# Altium footprint library SOP.PcbLib: 39 footprints (part 1 of 3)
Each footprint in its own frame and in the unit in brackets; x right, y up, seen from the top. Pads: shape width x height; smd on the part's side, far side on the other; paste and mask are expansions set on the pad; w line width, h text height; cw(c..) or ccw(c..) is an arc to the next point about the centre after c.
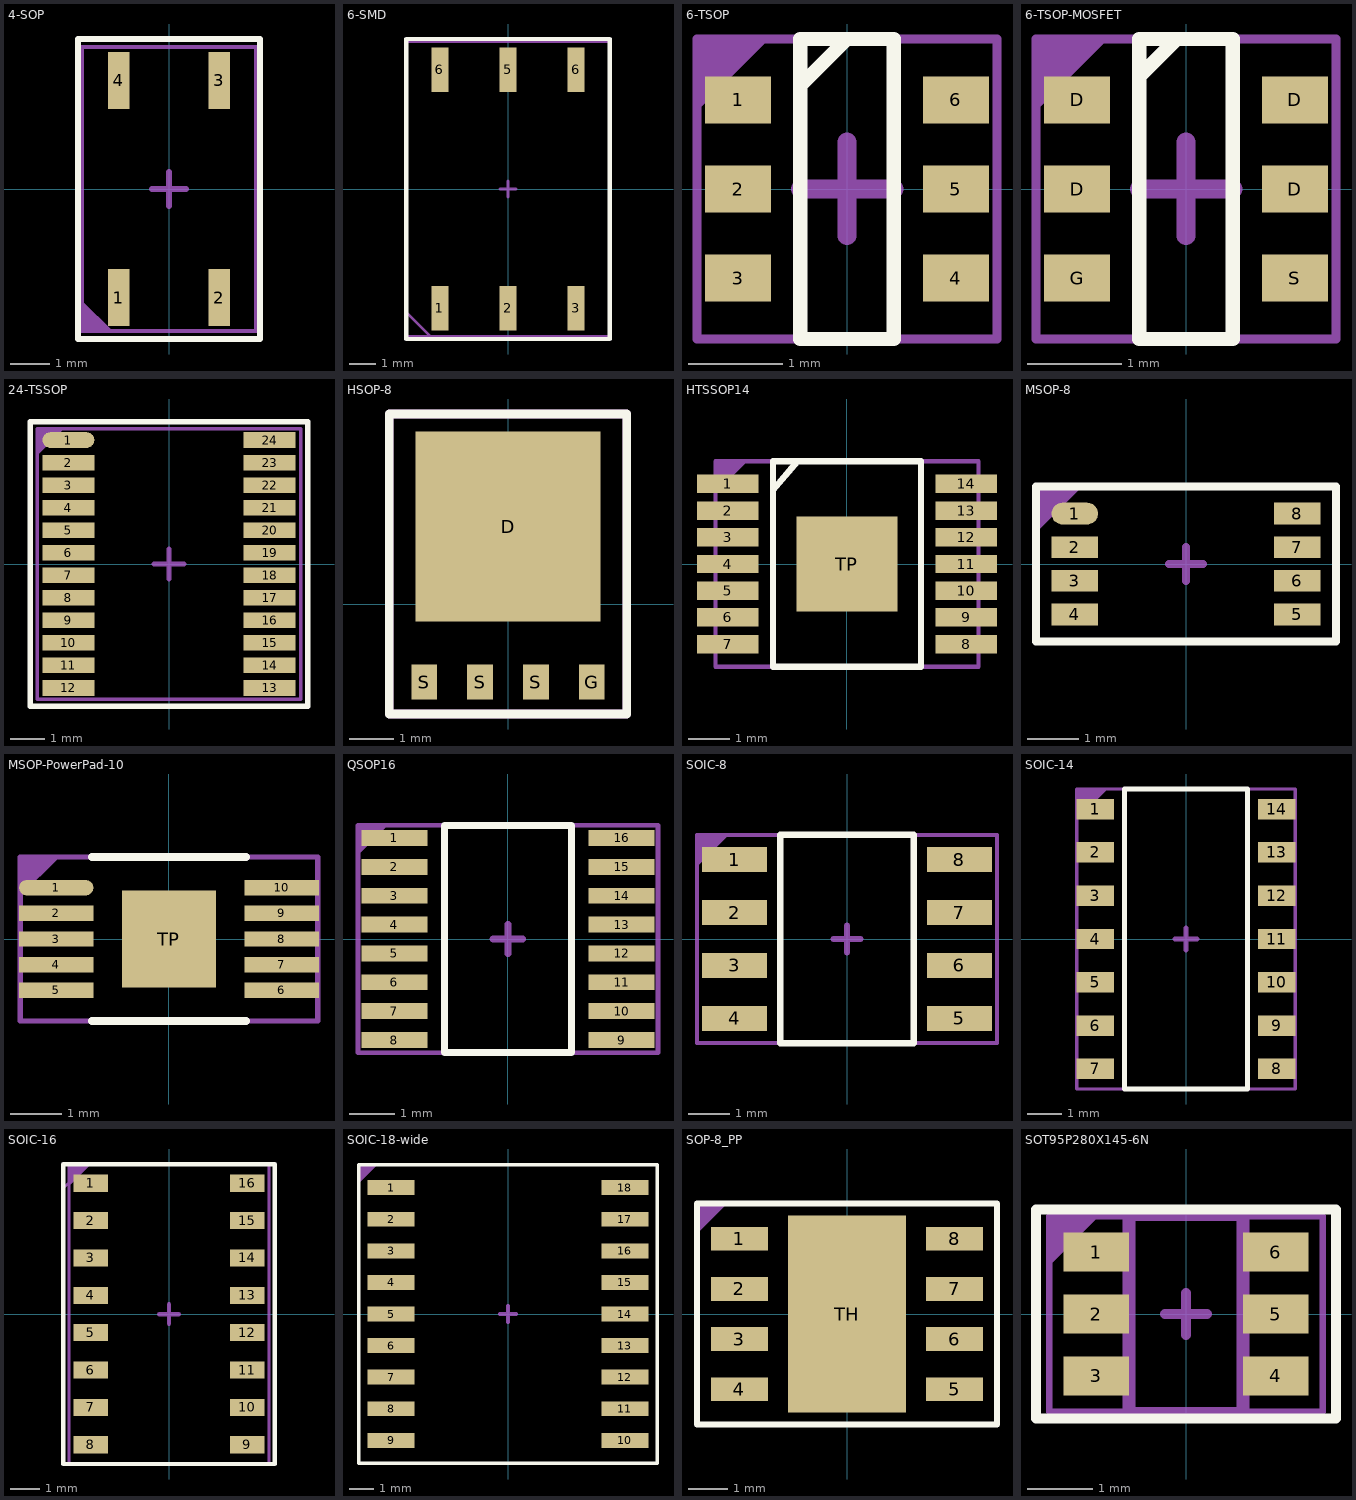
[diagram p0: the footprints below, top view; thin cyan lines are the x and y axes]

## 4-SOP [mm]
pads (4):
  rect 0.55x1.45 smd: 1(-1.27,-2.75) 2(1.27,-2.75) 3(1.27,2.75) 4(-1.27,2.75)
Top Overlay:
  lines w0.153: -2.3,-3.8 2.3,-3.8 2.3,3.8 -2.3,3.8 -2.3,-3.8
  text "." at -2.147,-4.347 h0.8
Top Assembly:
  region: -2.2,-3.6 -2.2,-2.9 -1.5,-3.6
  lines w0.1: -2.2,-2.9 -1.5,-3.6 ; -2.2,-3.6 -2.2,3.6 2.2,3.6 2.2,-3.6 -2.2,-3.6
  text "'.Designator'" at -2.147,4.22 h0.8
Mechanical 15:
  lines w0.1: -2.2,-2.9 -1.5,-3.6 ; -2.2,-3.6 -2.2,3.6 2.2,3.6 2.2,-3.6 -2.2,-3.6
  lines w0.153: -0.425,0 0.425,0 ; 0,-0.425 0,0.425
3D body "User Library-4-SOP.STEP": height 2.1, standoff 0, extent -2.17,-3.4 2.13,3.4

## 6-SMD [mm]
pads (6):
  rect 0.65x1.65 smd: 1(-2.54,-4.45) 2(0,-4.45) 3(2.54,-4.45) 5(0,4.45) 6(-2.54,4.45) 6(2.54,4.45)
Top Overlay:
  lines w0.153: -3.8,-5.6 3.8,-5.6 3.8,5.6 -3.8,5.6 -3.8,-5.6
  text "." at -3.487,-6.297 h0.8
Top Assembly:
  lines w0.1: -3.8,-4.6 -2.9,-5.5 ; -3.8,-5.5 3.8,-5.5 3.8,5.5 -3.8,5.5 -3.8,-5.5
  text "CHECK" at -1.547,7.853 h0.8
  text "'.Designator'" at -4.312,6.57 h0.8
Mechanical 15:
  lines w0.1: -3.8,-4.6 -2.9,-5.5 ; -0.3,0 0.3,0 ; 0,-0.3 0,0.3 ; -3.8,-5.5 3.8,-5.5 3.8,5.5 -3.8,5.5 -3.8,-5.5
3D body "User Library-6-SMD.STEP": height 3.61, standoff 0, extent -3.607,-5.085 3.683,5.075

## 6-TSOP [mm]
height 1.1
pads (6):
  rect 0.7x0.5 smd: 1(-1.162,0.95) 2(-1.162,0) 3(-1.162,-0.95) 4(1.162,-0.95) 5(1.162,0) 6(1.162,0.95)
Top Overlay:
  lines w0.15: -0.5,1.1 0,1.6
  lines w0.153: -0.5,-1.6 -0.5,1.6 0.5,1.6 0.5,-1.6 -0.5,-1.6
Top Assembly:
  region: -1.6,1.6 -0.9,1.6 -1.6,0.9
  lines w0.1: -1.6,0.9 -0.9,1.6 ; -1.6,-1.6 1.6,-1.6 1.6,1.6 -1.6,1.6 -1.6,-1.6
  text "'.Designator'" at -2.522,2.345 h0.8
Mechanical 15:
  lines w0.1: -1.6,0.9 -0.9,1.6 ; -1.6,-1.6 1.6,-1.6 1.6,1.6 -1.6,1.6 -1.6,-1.6
  lines w0.2: -0.5,0 0.5,0 ; 0,-0.5 0,0.5
3D body "6-TSOP.step": height 1.1, standoff 0, extent -1.412,-1.55 1.413,1.55

## 6-TSOP-MOSFET [mm]
height 1.1
pads (6):
  rect 0.7x0.5 smd: D(-1.162,0) D(-1.162,0.95) D(1.162,0) D(1.162,0.95) G(-1.162,-0.95) S(1.162,-0.95)
Top Overlay:
  lines w0.153: -0.5,1.2 -0.1,1.6 ; -0.5,-1.6 -0.5,1.6 0.5,1.6 0.5,-1.6 -0.5,-1.6
Top Assembly:
  region: -1.6,1.6 -0.9,1.6 -1.6,0.9
  lines w0.1: -1.6,0.9 -0.9,1.6 ; -1.6,-1.6 -1.6,1.6 1.6,1.6 1.6,-1.6 -1.6,-1.6
  text "'.Designator'" at -2.522,2.345 h0.8
Mechanical 15:
  lines w0.1: -1.6,0.9 -0.9,1.6 ; -1.6,-1.6 -1.6,1.6 1.6,1.6 1.6,-1.6 -1.6,-1.6
  lines w0.2: -0.5,0 0.5,0 ; 0,-0.5 0,0.5
3D body "6-TSOP.step": height 1.1, standoff 0, extent -1.412,-1.55 1.413,1.55

## 24-TSSOP [mm]
pads (24):
  oval 1.5x0.45 smd mask+0.025: 1(-2.9,3.575)
  rect 1.5x0.45 smd mask+0.025: 2(-2.9,2.925) 3(-2.9,2.275) 4(-2.9,1.625) 5(-2.9,0.975) 6(-2.9,0.325) 7(-2.9,-0.325) 8(-2.9,-0.975) 9(-2.9,-1.625) 10(-2.9,-2.275) 11(-2.9,-2.925) 12(-2.9,-3.575) 13(2.9,-3.575) 14(2.9,-2.925) 15(2.9,-2.275) 16(2.9,-1.625) 17(2.9,-0.975) 18(2.9,-0.325) 19(2.9,0.325) 20(2.9,0.975) 21(2.9,1.625) 22(2.9,2.275) 23(2.9,2.925) 24(2.9,3.575)
Top Overlay:
  lines w0.153: -4,-4.1 -4,4.1 4,4.1 4,-4.1 -4,-4.1
  text "." at -4.547,3.953 h0.8
Top Assembly:
  region: -3.8,3.9 -3.1,3.9 -3.8,3.2
  lines w0.1: -3.8,3.2 -3.1,3.9 ; -3.8,-3.9 3.8,-3.9 3.8,3.9 -3.8,3.9 -3.8,-3.9
  text "'.Designator'" at -0.68,3.747 h0.8
Mechanical 15:
  lines w0.1: -3.8,3.2 -3.1,3.9 ; -3.8,-3.9 -3.8,3.9 3.8,3.9 3.8,-3.9 -3.8,-3.9
  lines w0.153: -0.425,0 0.425,0 ; 0,-0.425 0,0.425
3D body "User Library-TSSOP24_(JEDEC_MO-153).STEP": height 1.2, standoff 0, extent -3.278,-3.975 3.278,3.925

## HSOP-8 [mm]
pads (5):
  rect 4.21x4.32 smd: D(0,1.77)
  rect 0.59x0.8 smd: G(1.905,-1.77) S(-1.905,-1.77) S(-0.635,-1.77) S(0.635,-1.77)
Top Overlay:
  lines w0.2: -2.7,-2.495 2.7,-2.495 2.7,4.33 -2.7,4.33 -2.7,-2.495
  text "." at -2.446,-3.316 h1.52
Top Assembly:
  lines w0.2: -2.7,-2.495 -2.7,4.33 2.7,4.33 2.7,-2.495 -2.7,-2.495
  text "BAD" at -1.047,6.553 h0.8
  text "'.Designator'" at -4.399,5.129 h0.8
Mechanical 15:
  lines w0.1: -2.7,-2.495 2.7,-2.495 2.7,4.33 -2.7,4.33 -2.7,-2.495
  lines w0.2: -0.6,1.13 0.4,1.13 ; -0.109,0.617 -0.109,1.617

## HTSSOP14 [mm]
pads (15):
  rect 1.5x0.45 smd mask+0.02: 1(-2.9,1.95) 2(-2.9,1.3) 3(-2.9,0.65) 4(-2.9,0) 5(-2.9,-0.65) 6(-2.9,-1.3) 7(-2.9,-1.95) 8(2.9,-1.95) 9(2.9,-1.3) 10(2.9,-0.65) 11(2.9,0) 12(2.9,0.65) 13(2.9,1.3) 14(2.9,1.95)
  rect 2.46x2.31 smd: TP(0,0)
Top Overlay:
  lines w0.153: -1.8,1.8 -1.2,2.5 ; -1.8,-2.5 -1.8,2.5 1.8,2.5 1.8,-2.5 -1.8,-2.5
Top Assembly:
  region: -3.2,2.5 -2.5,2.5 -3.2,1.8
  lines w0.1: -3.2,1.8 -2.5,2.5 ; -3.2,-2.5 3.2,-2.5 3.2,2.5 -3.2,2.5 -3.2,-2.5
  text "'.Designator'" at -4.347,-0.28 h0.8
Mechanical 15:
  lines w0.1: -0.3,0 0.3,0 ; 0,-0.3 0,0.3 ; -3.2,-2.5 -3.2,2.5 3.2,2.5 3.2,-2.5 -3.2,-2.5
3D body "HTSSOP14.step": height 1.1, standoff 0, extent -3.192,-2.491 3.191,2.491

## MSOP-8 [mm]
pads (8):
  oval 0.9x0.42 smd: 1(-2.15,0.975)
  rect 0.9x0.42 smd: 2(-2.15,0.325) 3(-2.15,-0.325) 4(-2.15,-0.975) 5(2.15,-0.975) 6(2.15,-0.325) 7(2.15,0.325) 8(2.15,0.975)
Top Overlay:
  lines w0.153: -2.9,-1.5 2.9,-1.5 2.9,1.5 -2.9,1.5 -2.9,-1.5
  text "." at -3.846,1.449 h1.52
Top Assembly:
  region: -2.9,1.5 -2.2,1.5 -2.9,0.8
  lines w0.1: -2.9,0.8 -2.2,1.5 ; -2.9,-1.5 2.9,-1.5 2.9,1.5 -2.9,1.5 -2.9,-1.5
  text "'.Designator'" at -2.847,-0.38 h0.8
Mechanical 15:
  lines w0.1: -2.887,0.688 -2.075,1.5 ; -2.9,-1.5 2.9,-1.5 2.9,1.5 -2.9,1.5 -2.9,-1.5
  lines w0.153: -0.325,0 0.325,0 ; 0,-0.325 0,0.325
3D body "MSOP-8.step": height 1.01, standoff 0, extent -2.46,-1.525 2.461,1.525

## MSOP-PowerPad-10 [mm]
pads (11):
  oval 1.45x0.3 smd mask+0.02: 1(-2.2,1)
  rect 1.45x0.3 smd mask+0.02: 2(-2.2,0.5) 3(-2.2,0) 4(-2.2,-0.5) 5(-2.2,-1) 6(2.2,-1) 7(2.2,-0.5) 8(2.2,0) 9(2.2,0.5) 10(2.2,1)
  rect 1.83x1.89 smd: TP(0,0)
Top Overlay:
  lines w0.153: -1.5,-1.6 1.5,-1.6 ; -1.5,1.6 1.5,1.6
  text "." at -2.547,1.653 h0.8
Top Assembly:
  region: -2.9,1.6 -2.2,1.6 -2.9,0.9
  lines w0.1: -2.9,0.9 -2.2,1.6 ; -2.9,-1.6 -2.9,1.6 2.9,1.6 2.9,-1.6 -2.9,-1.6
  text "'.Designator'" at -4.532,-0.333 h0.8
Mechanical 15:
  lines w0.1: -2.9,-1.6 -2.9,1.6 2.9,1.6 2.9,-1.6 -2.9,-1.6
3D body "DGQ (S-PDSO-G10).STEP": height 1.1, standoff 0, extent -2.518,-1.55 2.518,1.55

## QSOP16 [mm]
pads (16):
  rect 1.45x0.35 smd: 1(-2.5,2.222) 2(-2.5,1.587) 3(-2.5,0.953) 4(-2.5,0.318) 5(-2.5,-0.318) 6(-2.5,-0.953) 7(-2.5,-1.587) 8(-2.5,-2.222) 9(2.5,-2.222) 10(2.5,-1.587) 11(2.5,-0.953) 12(2.5,-0.318) 13(2.5,0.318) 14(2.5,0.953) 15(2.5,1.587) 16(2.5,2.222)
Top Overlay:
  lines w0.153: -1.4,-2.5 1.4,-2.5 1.4,2.5 -1.4,2.5 -1.4,-2.5
  text "." at -3.046,2.854 h1.52
Top Assembly:
  region: -3.3,2.55 -2.6,2.55 -3.3,1.85
  lines w0.1: -3.3,-2.5 3.3,-2.5 3.3,2.5 -3.3,2.5 -3.3,-2.5
  text "'.Designator'" at -0.333,4.532 h0.8
Mechanical 15:
  lines w0.1: -3.3,-2.5 -3.3,2.5 3.3,2.5 3.3,-2.5 -3.3,-2.5
  lines w0.153: -0.325,0 0.325,0 ; 0,-0.325 0,0.325
3D body "QSOP16-1.STEP": height 1.75, standoff -0.01, extent -3.1,-2.49 3.1,2.49

## SOIC-8 [mm]
pads (8):
  rect 1.55x0.6 smd: 1(-2.7,1.905) 2(-2.7,0.635) 3(-2.7,-0.635) 4(-2.7,-1.905) 5(2.7,-1.905) 6(2.7,-0.635) 7(2.7,0.635) 8(2.7,1.905)
Top Overlay:
  lines w0.153: -1.6,-2.5 -1.6,2.5 1.6,2.5 1.6,-2.5 -1.6,-2.5
  text "." at -2.747,3.053 h0.8
Top Assembly:
  region: -3.6,2.5 -2.9,2.5 -3.6,1.8
  lines w0.1: -3.6,1.8 -2.9,2.5 ; -3.6,-2.5 3.6,-2.5 3.6,2.5 -3.6,2.5 -3.6,-2.5
  text "'.Designator'" at -0.333,4.532 h0.8
Mechanical 15:
  lines w0.1: -3.6,1.8 -2.9,2.5 ; -3.6,-2.5 -3.6,2.5 3.6,2.5 3.6,-2.5 -3.6,-2.5
  lines w0.153: -0.325,0 0.325,0 ; 0,-0.325 0,0.325
3D body "so8-3.step": height 1.7, standoff 0, extent -3,-2.45 3,2.45

## SOIC-14 [mm]
pads (14):
  rect 1.1x0.6 smd: 1(-2.66,3.81) 2(-2.66,2.54) 3(-2.66,1.27) 4(-2.66,0) 5(-2.66,-1.27) 6(-2.66,-2.54) 7(-2.66,-3.81) 8(2.66,-3.81) 9(2.66,-2.54) 10(2.66,-1.27) 11(2.66,0) 12(2.66,1.27) 13(2.66,2.54) 14(2.66,3.81)
Top Overlay:
  lines w0.153: -1.8,-4.4 -1.8,4.4 1.8,4.4 1.8,-4.4 -1.8,-4.4
  text "." at -2.746,5.154 h1.52
Top Assembly:
  region: -3.2,4.4 -2.5,4.4 -3.2,3.7
  lines w0.1: -3.2,3.7 -2.5,4.4 ; -3.2,-4.4 -3.2,4.4 3.2,4.4 3.2,-4.4 -3.2,-4.4
  text "'.Designator'" at -0.28,4.247 h0.8
Mechanical 15:
  lines w0.1: -3.187,3.588 -2.375,4.4 ; -3.2,-4.4 3.2,-4.4 3.2,4.4 -3.2,4.4 -3.2,-4.4
  lines w0.153: -0.325,0 0.325,0 ; 0,-0.325 0,0.325
3D body "soic14-1.step": height 1.7, standoff 0, extent -3,-4.4 3,4.4

## SOIC-16 [mm]
pads (16):
  rect 1.18x0.58 smd: 1(-2.66,4.445) 2(-2.66,3.175) 3(-2.66,1.905) 4(-2.66,0.635) 5(-2.66,-0.635) 6(-2.66,-1.905) 7(-2.66,-3.175) 8(-2.66,-4.445) 9(2.66,-4.445) 10(2.66,-3.175) 11(2.66,-1.905) 12(2.66,-0.635) 13(2.66,0.635) 14(2.66,1.905) 15(2.66,3.175) 16(2.66,4.445)
Top Overlay:
  lines w0.153: -3.6,-5.1 3.6,-5.1 3.6,5.1 -3.6,5.1 -3.6,-5.1
  text "." at -4.546,4.889 h1.52
Top Assembly:
  region: -3.4,5.1 -2.7,5.1 -3.4,4.4
  lines w0.1: -3.4,4.4 -2.7,5.1 ; -3.4,-5.1 3.4,-5.1 3.4,5.1 -3.4,5.1 -3.4,-5.1
  text "'.Designator'" at -0.38,4.847 h0.8
Mechanical 15:
  lines w0.1: -3.587,4.288 -2.775,5.1 ; -3.6,-5.1 -3.6,5.1 3.6,5.1 3.6,-5.1 -3.6,-5.1
  lines w0.153: -0.325,0 0.325,0 ; 0,-0.325 0,0.325
3D body "so16.step": height 1.7, standoff 0, extent -3,-5.1 3,5.1

## SOIC-18-wide [mm]
pads (18):
  rect 1.9x0.6 smd: 1(-4.7,5.08) 2(-4.7,3.81) 3(-4.7,2.54) 4(-4.7,1.27) 5(-4.7,0) 6(-4.7,-1.27) 7(-4.7,-2.54) 8(-4.7,-3.81) 9(-4.7,-5.08) 10(4.7,-5.08) 11(4.7,-3.81) 12(4.7,-2.54) 13(4.7,-1.27) 14(4.7,0) 15(4.7,1.27) 16(4.7,2.54) 17(4.7,3.81) 18(4.7,5.08)
Top Overlay:
  lines w0.153: -6,-6 -6,6 6,6 6,-6 -6,-6
  text "." at -7.046,5.824 h1.52
Top Assembly:
  region: -6,6 -5.3,6 -6,5.3
  lines w0.1: -6,5.3 -5.3,6 ; -6,-6 6,-6 6,6 -6,6 -6,-6
  text "'.Designator'" at -0.38,5.482 h0.8
Mechanical 15:
  lines w0.1: -6,-6 -6,6 6,6 6,-6 -6,-6
  lines w0.153: -0.325,0 0.325,0 ; 0,-0.325 0,0.325
3D body "SOIC18-300.step": height 2.65, standoff 0, extent -5.15,-5.765 5.15,5.765

## SOP-8_PP [mm] "TSOP, 8-Leads, Body 4,90x3,90mm, Pitch 1,27mm, Thermal Pad 4,00x2,00mm, IPC Medium Density"
height 1.35
pads (9):
  rect 1.45x0.6 smd: 1(-2.725,1.905) 2(-2.725,0.635) 3(-2.725,-0.635) 4(-2.725,-1.905) 5(2.725,-1.905) 6(2.725,-0.635) 7(2.725,0.635) 8(2.725,1.905)
  rect 3x5 smd: TH(0,0)
Top Overlay:
  lines w0.153: -3.8,-2.8 3.8,-2.8 3.8,2.8 -3.8,2.8 -3.8,-2.8
  text "." at -4.646,2.754 h1.52
Top Assembly:
  region: -3.8,2.8 -3.1,2.8 -3.8,2.1
  lines w0.1: -3.8,2.1 -3.1,2.8 ; -3.8,-2.8 3.8,-2.8 3.8,2.8 -3.8,2.8 -3.8,-2.8
  text "'.Designator'" at 0.333,-4.532 h0.8
Mechanical 15:
  lines w0.1: -3.8,-2.8 3.8,-2.8 3.8,2.8 -3.8,2.8 -3.8,-2.8
  lines w0.2: -0.5,0 0.5,0 ; 0,-0.5 0,0.5
3D body "TSOP127P600X135_HS-9N.step": height 1.35, standoff 0, extent -3,-2.5 3,2.5

## SOT95P280X145-6N [mm] "SOT23, 6-Leads, Body 2,90x2,80mm, Pitch 0,95mm, IPC Medium Density"
height 1.45
pads (6):
  rect 1x0.6 smd: 1(-1.375,0.95) 2(-1.375,0) 3(-1.375,-0.95) 4(1.375,-0.95) 5(1.375,0) 6(1.375,0.95)
Top Overlay:
  lines w0.153: -2.3,-1.6 2.3,-1.6 2.3,1.6 -2.3,1.6 -2.3,-1.6
  text "." at -3.046,1.454 h1.52
Top Assembly:
  region: -2.1,1.5 -1.4,1.5 -2.1,0.8
  lines w0.1: -2.1,0.8 -1.4,1.5 ; -2.1,-1.5 -2.1,1.5 2.1,1.5 2.1,-1.5 -2.1,-1.5
  lines w0.2: -0.875,-1.525 -0.875,1.525 0.875,1.525 0.875,-1.525 -0.875,-1.525
  text "'.Designator'" at -2.8,2.131 h0.8
Mechanical 15:
  lines w0.153: -0.325,0 0.325,0 ; 0,-0.325 0,0.325
3D body "SOT95P280X145-6N.step": height 1.45, standoff 0, extent -1.499,-1.525 1.499,1.525